# Altium footprint library STEM_PCB.PcbLib: 50 footprints (part 4 of 4)
Each footprint in its own frame and in the unit in brackets; x right, y up, seen from the top. Pads: shape width x height; smd on the part's side, far side on the other; paste and mask are expansions set on the pad; w line width, h text height; cw(c..) or ccw(c..) is an arc to the next point about the centre after c.
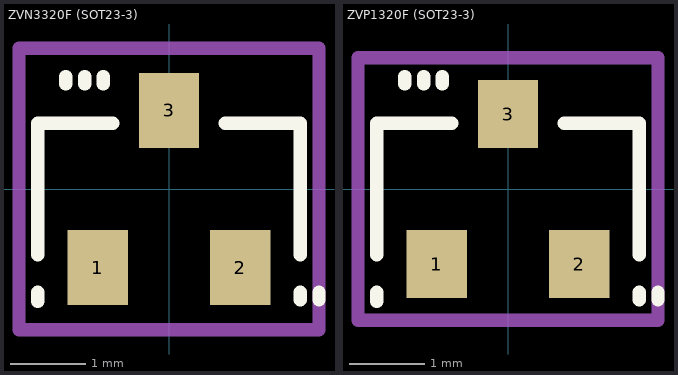
[diagram p3: the footprints below, top view; thin cyan lines are the x and y axes]

## ZVN3320F (SOT23-3) [mm] "SOT-23-3 for ZVN3320F"
height 1.2
pads (3):
  rect 0.8x1 smd: 1(-0.95,-1.05) 2(0.95,-1.05) 3(0,1.05)
Top Overlay:
  lines w0.178: -1.75,-1.5 -1.75,-1.375 ; -1.75,-0.875 -1.75,0.875 -0.75,0.875 ; -1.375,1.4 -1.375,1.5 ; -1.125,1.4 -1.125,1.5 ; -0.875,1.4 -0.875,1.5 ; 0.75,0.875 1.75,0.875 1.75,-0.875 ; 1.75,-1.475 1.75,-1.375 ; 2,-1.475 2,-1.375
Mechanical 15:
  lines w0.178: -2,-1.875 -2,1.875 2,1.875 2,-1.875 -2,-1.875
3D body: height 0.11, standoff 0, extent -0.25,0.7 0.25,1.325
3D body: height 0.11, standoff 0, extent 0.7,-1.325 1.2,-0.7
3D body: height 0.11, standoff 0, extent -1.2,-1.325 -0.7,-0.7
3D body: height 1.2, standoff 0.05, extent -1.525,-0.7 1.525,0.7

## ZVP1320F (SOT23-3) [mm] "SOT-23-3 for ZVP1320P"
height 1.2
pads (3):
  rect 0.8x0.9 smd: 1(-0.95,-1) 2(0.95,-1) 3(0,1)
Top Overlay:
  lines w0.178: -1.75,-1.5 -1.75,-1.375 ; -1.75,-0.875 -1.75,0.875 -0.75,0.875 ; -1.375,1.4 -1.375,1.5 ; -1.125,1.4 -1.125,1.5 ; -0.875,1.4 -0.875,1.5 ; 0.75,0.875 1.75,0.875 1.75,-0.875 ; 1.75,-1.475 1.75,-1.375 ; 2,-1.475 2,-1.375
Mechanical 15:
  lines w0.178: -2,-1.75 2,-1.75 2,1.75 -2,1.75 -2,-1.75
3D body: height 0.11, standoff 0, extent -1.2,-1.25 -0.7,-0.7
3D body: height 0.11, standoff 0, extent 0.7,-1.25 1.2,-0.7
3D body: height 0.11, standoff 0, extent -0.25,0.7 0.25,1.25
3D body: height 1.2, standoff 0.05, extent -1.5,-0.7 1.5,0.7